# EAGLE library part RP235XB (library ds_ic_mcu)
RP2350 is a new family of microcontrollers from Raspberry Pi that offers significant enhancements over RP2040. Key features include: • Dual Cortex-M33 or Hazard3 processors at 150 MHz • 520 kB on-chip SRAM, in 10 independent banks • 8 kB of one-time-programmable storage (OTP) • Up to 16 MB of external QSPI flash/PSRAM via dedicated QSPI bus ◦Additional 16 MB flash/PSRAM accessible via optional second chip-select • On-chip switched-mode power supply to generate core voltage ◦Low-quiescent-current LDO mode can be enabled for sleep states • 2× on-chip PLLs for internal or external clock generation • Security features: ◦Optional boot signing, enforced by on-chip mask ROM, with key fingerprint in OTP ◦Protected OTP storage for optional boot decryption key ◦Global bus filtering based on Arm or RISC-V security/privilege levels ◦Peripherals, GPIOs and DMA channels individually assignable to security domains ◦Hardware mitigations for fault injection attacks ◦Hardware SHA-256 accelerator • Peripherals: ◦2× UARTs ◦2× SPI controllers ◦2× I2C controllers ◦24× PWM channels ◦USB 1.1 controller and PHY, with host and device support ◦12× PIO state machines ◦1× HSTX peripheral
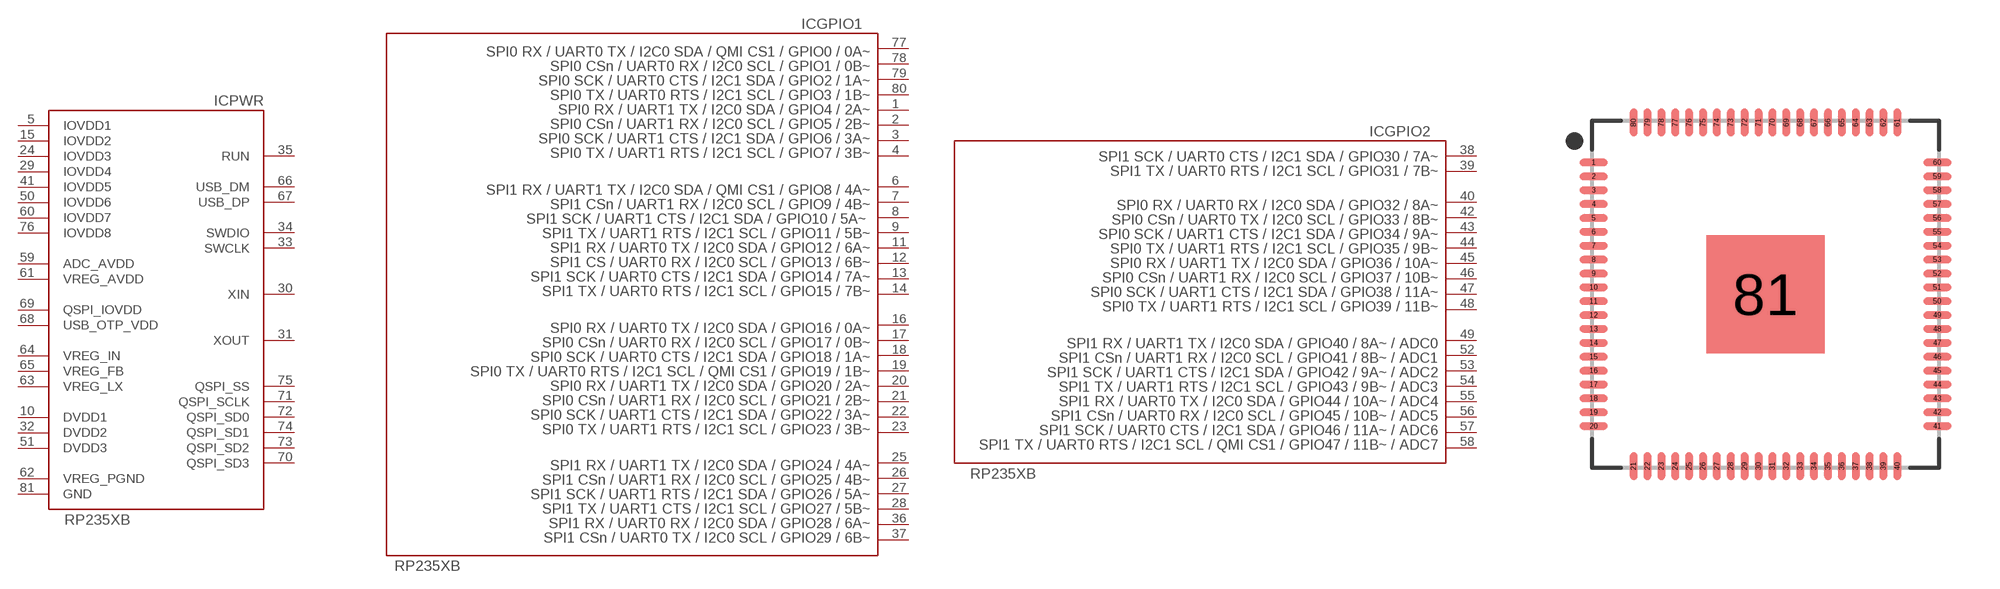
[diagram p18: symbol with the pads of QFN80-10X10; footprint QFN80-10X10]

Designator prefix IC; gates PWR=RP235XB-PWR GPIO1=RP235XB-IO1 GPIO2=RP235XB-IO2

## RP235XB (DESCRIPTION: QFN-80-EP(10x10) Microcontrollers (MCU/MPU/SOC) ROHS; LCSC_PART: C39843328; MANUFACTURER: Raspberry Pi; MPN: RP2354B; ROHS: YES; VALUE: RP2354B)  [QFN80-10X10]
1  GPIO1:GPIO4
2  GPIO1:GPIO5
3  GPIO1:GPIO6
4  GPIO1:GPIO7
5  PWR:IOVDD1  pwr
6  GPIO1:GPIO8
7  GPIO1:GPIO9
8  GPIO1:GPIO10
9  GPIO1:GPIO11
10  PWR:DVDD1  pwr
11  GPIO1:GPIO12
12  GPIO1:GPIO13
13  GPIO1:GPIO14
14  GPIO1:GPIO15
15  PWR:IOVDD2  pwr
16  GPIO1:GPIO16
17  GPIO1:GPIO17
18  GPIO1:GPIO18
19  GPIO1:GPIO19
20  GPIO1:GPIO20
21  GPIO1:GPIO21
22  GPIO1:GPIO22
23  GPIO1:GPIO23
24  PWR:IOVDD3  pwr
25  GPIO1:GPIO24
26  GPIO1:GPIO25
27  GPIO1:GPIO26
28  GPIO1:GPIO27
29  PWR:IOVDD4  pwr
30  PWR:XIN  in
31  PWR:XOUT  out
32  PWR:DVDD2  pwr
33  PWR:SWCLK  out
34  PWR:SWDIO
35  PWR:RUN  in
36  GPIO1:GPIO28
37  GPIO1:GPIO29
38  GPIO2:GPIO30
39  GPIO2:GPIO31
40  GPIO2:GPIO32
41  PWR:IOVDD5  pwr
42  GPIO2:GPIO33
43  GPIO2:GPIO34
44  GPIO2:GPIO35
45  GPIO2:GPIO36
46  GPIO2:GPIO37
47  GPIO2:GPIO38
48  GPIO2:GPIO39
49  GPIO2:GPIO40_ADC0
50  PWR:IOVDD6  pwr
51  PWR:DVDD3  pwr
52  GPIO2:GPIO41_ADC1
53  GPIO2:GPIO42_ADC2
54  GPIO2:GPIO43_ADC3
55  GPIO2:GPIO44_ADC4
56  GPIO2:GPIO45_ADC5
57  GPIO2:GPIO46_ADC6
58  GPIO2:GPIO47_ADC7
59  PWR:ADC_AVDD  pwr
60  PWR:IOVDD7  pwr
61  PWR:VREG_AVDD  pwr
62  PWR:VREG_PGND  pwr
63  PWR:VREG_LX  pwr
64  PWR:VREG_IN  pwr
65  PWR:VREG_FB  in
66  PWR:USB_DM
67  PWR:USB_DP
68  PWR:USB_OTP_VDD  pwr
69  PWR:QSPI_IOVDD  pwr
70  PWR:QSPI_SD3
71  PWR:QSPI_SCLK  out
72  PWR:QSPI_SD0
73  PWR:QSPI_SD2
74  PWR:QSPI_SD1
75  PWR:QSPI_SS  out
76  PWR:IOVDD8  pwr
77  GPIO1:GPIO0
78  GPIO1:GPIO1
79  GPIO1:GPIO2
80  GPIO1:GPIO3
81  PWR:GND  pwr

## Footprint QFN80-10X10 (pad centres in mm)
80-QFN, 0.40 mm pitch, 10.00 X 10.00 X 0.85 mm body, 3.40 X 3.40 mm thermal pad 80-pin QFN package with 0.40 mm pitch with body size 10.00 X 10.00 X 0.85 mm and thermal pad size 3.40 X 3.40 mm
smd 0.811 x 0.22: 1 -4.951,3.8; 2 -4.951,3.4; 3 -4.951,3; 4 -4.951,2.6; 5 -4.951,2.2; 6 -4.951,1.8; 7 -4.951,1.4; 8 -4.951,1; 9 -4.951,0.6; 10 -4.951,0.2; 11 -4.951,-0.2; 12 -4.951,-0.6; 13 -4.951,-1; 14 -4.951,-1.4; 15 -4.951,-1.8; 16 -4.951,-2.2; 17 -4.951,-2.6; 18 -4.951,-3; 19 -4.951,-3.4; 20 -4.951,-3.8; 41 4.951,-3.8; 42 4.951,-3.4; 43 4.951,-3; 44 4.951,-2.6; 45 4.951,-2.2; 46 4.951,-1.8; 47 4.951,-1.4; 48 4.951,-1; 49 4.951,-0.6; 50 4.951,-0.2; 51 4.951,0.2; 52 4.951,0.6; 53 4.951,1; 54 4.951,1.4; 55 4.951,1.8; 56 4.951,2.2; 57 4.951,2.6; 58 4.951,3; 59 4.951,3.4; 60 4.951,3.8
smd 0.22 x 0.811: 21 -3.8,-4.951; 22 -3.4,-4.951; 23 -3,-4.951; 24 -2.6,-4.951; 25 -2.2,-4.951; 26 -1.8,-4.951; 27 -1.4,-4.951; 28 -1,-4.951; 29 -0.6,-4.951; 30 -0.2,-4.951; 31 0.2,-4.951; 32 0.6,-4.951; 33 1,-4.951; 34 1.4,-4.951; 35 1.8,-4.951; 36 2.2,-4.951; 37 2.6,-4.951; 38 3,-4.951; 39 3.4,-4.951; 40 3.8,-4.951; 61 3.8,4.951; 62 3.4,4.951; 63 3,4.951; 64 2.6,4.951; 65 2.2,4.951; 66 1.8,4.951; 67 1.4,4.951; 68 1,4.951; 69 0.6,4.951; 70 0.2,4.951; 71 -0.2,4.951; 72 -0.6,4.951; 73 -1,4.951; 74 -1.4,4.951; 75 -1.8,4.951; 76 -2.2,4.951; 77 -2.6,4.951; 78 -3,4.951; 79 -3.4,4.951; 80 -3.8,4.951
smd 3.4 x 3.4: 81 0,0